# EAGLE library part LAUNCHPAD_FOOTPRINT (library 491Library)
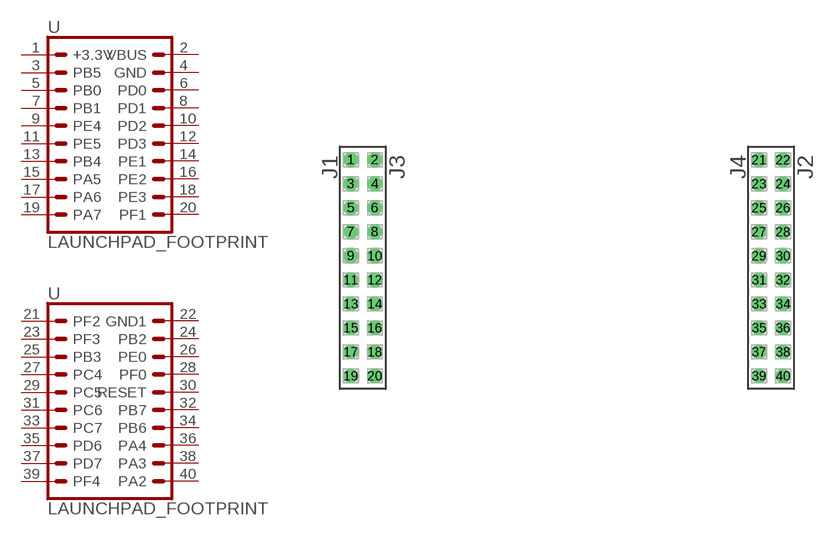
[diagram p3: symbol with the pads of SSW-110-02-S-D; footprint SSW-110-02-S-D]

Designator prefix -

## LAUNCHPAD_FOOTPRINT  [SSW-110-02-S-D]
1  +3.3V  pas
2  VBUS  pas
3  PB5  pas
4  GND  pas
5  PB0  pas
6  PD0  pas
7  PB1  pas
8  PD1  pas
9  PE4  pas
10  PD2  pas
11  PE5  pas
12  PD3  pas
13  PB4  pas
14  PE1  pas
15  PA5  pas
16  PE2  pas
17  PA6  pas
18  PE3  pas
19  PA7  pas
20  PF1  pas
21  PF2  pas
22  GND1  pas
23  PF3  pas
24  PB2  pas
25  PB3  pas
26  PE0  pas
27  PC4  pas
28  PF0  pas
29  PC5  pas
30  RESET  pas
31  PC6  pas
32  PB7  pas
33  PC7  pas
34  PB6  pas
35  PD6  pas
36  PA4  pas
37  PD7  pas
38  PA3  pas
39  PF4  pas
40  PA2  pas

## Footprint SSW-110-02-S-D (pad centres in mm)
THROUGH-HOLE .025" SQ POST SOCKET Source: Samtec SSW.pdf
drill 1 pad 1.5 octagon: 1 -22.86,11.43; 2 -20.32,11.43; 3 -22.86,8.89; 4 -20.32,8.89; 5 -22.86,6.35; 6 -20.32,6.35; 7 -22.86,3.81; 8 -20.32,3.81; 9 -22.86,1.27; 10 -20.32,1.27; 11 -22.86,-1.27; 12 -20.32,-1.27; 13 -22.86,-3.81; 14 -20.32,-3.81; 15 -22.86,-6.35; 16 -20.32,-6.35; 17 -22.86,-8.89; 18 -20.32,-8.89; 19 -22.86,-11.43; 20 -20.32,-11.43; 21 20.32,11.43; 22 22.86,11.43; 23 20.32,8.89; 24 22.86,8.89; 25 20.32,6.35; 26 22.86,6.35; 27 20.32,3.81; 28 22.86,3.81; 29 20.32,1.27; 30 22.86,1.27; 31 20.32,-1.27; 32 22.86,-1.27; 33 20.32,-3.81; 34 22.86,-3.81; 35 20.32,-6.35; 36 22.86,-6.35; 37 20.32,-8.89; 38 22.86,-8.89; 39 20.32,-11.43; 40 22.86,-11.43